# Altium footprint library WR-RPSMA.PcbLib: 10 footprints
Each footprint in its own frame and in the unit in brackets; x right, y up, seen from the top. Pads: shape width x height; smd on the part's side, far side on the other; paste and mask are expansions set on the pad; w line width, h text height; cw(c..) or ccw(c..) is an arc to the next point about the centre after c.
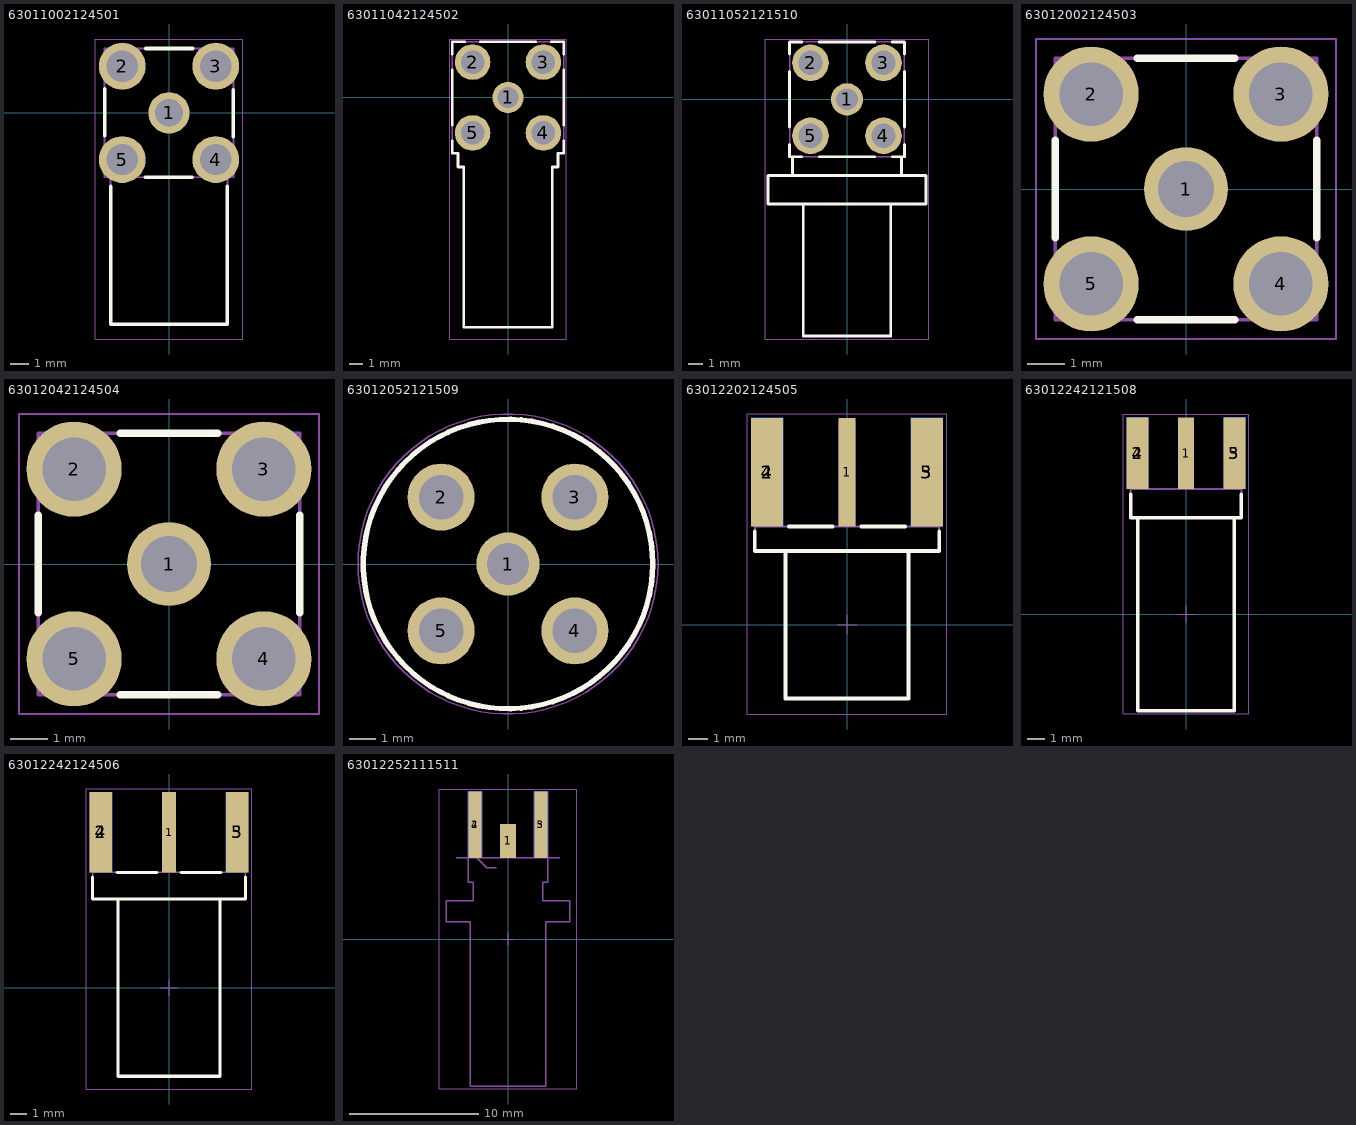
[diagram p0: the footprints below, top view; thin cyan lines are the x and y axes]

## 63011002124501 [mm] "Reverse Polarity SMA PCB THT  Jack Right Angle"
height 7
pads (5):
  round 2.25 hole 1.5: 1(0,0)
  round 2.55 hole 1.7: 2(-2.54,2.54) 3(2.54,2.54) 4(2.54,-2.54) 5(-2.54,-2.54)
Top Overlay:
  lines w0.2: -3.5,-1.25 -3.5,1.3 ; -3.175,-4 -3.175,-11.5 3.175,-11.5 3.175,-4 ; -1.3,-3.5 1.25,-3.5 ; -1.25,3.5 1.3,3.5 ; 3.5,-1.3 3.5,1.25
Top Designator:
  text ".Designator" at -7.498,-0.5 h1.5
Top Component Outline:
  lines w0.1: -3.175,-3.5 -3.175,-11.5 3.175,-11.5 3.175,-3.5 ; -3.5,-3.5 -3.5,3.5 3.5,3.5 3.5,-3.5 -3.5,-3.5
Top 3D Body:
  lines w0.1: -3.175,-3.5 -3.175,-11.5 3.175,-11.5 3.175,-3.5 ; -3.5,-3.5 3.5,-3.5 3.5,3.5 -3.5,3.5 -3.5,-3.5
Top Courtyard:
  lines w0.05: -0.5,0 0.5,0 ; 0,-0.5 0,0.5 ; -4.015,-12.3 4.015,-12.3 4.015,4.015 -4.015,4.015 -4.015,-12.3
3D body "63011002124501.stp": height 9.68, standoff -3.92, extent -3.5,-12.202 3.5,3.5

## 63011042124502 [mm] "Reverse Polarity SMA PCB THT Jack  Right Angle Rear Mount Bulkhead"
height 10.44
pads (5):
  round 2.25 hole 1.5: 1(0,0)
  round 2.55 hole 1.7: 2(-2.54,2.54) 3(2.54,2.54) 4(2.54,-2.54) 5(-2.54,-2.54)
Top Overlay:
  lines w0.2: -4,-3.1 -4,-4 -3.6,-4 -3.6,-5 -3.175,-5 -3.175,-16.5 3.175,-16.5 3.175,-5 3.6,-5 3.6,-4 4,-4 4,-3.1 ; -4,-1.98 -4,1.98 ; -4,3.1 -4,4 -3.1,4 ; -1.98,4 1.98,4 ; 3.1,4 4,4 4,3.1 ; 4,-1.98 4,1.98
Top Designator:
  text ".Designator" at -7.498,-0.5 h1.5
Top Component Outline:
  lines w0.1: -4,-4 -4,4 4,4 4,-4 3.6,-4 3.6,-5 3.175,-5 3.175,-16.5 -3.175,-16.5 -3.175,-5 -3.6,-5 -3.6,-4 -4,-4
Top 3D Body:
  lines w0.1: -4,-4 -3.6,-4 -3.6,-5 -3.175,-5 -3.175,-16.5 3.175,-16.5 3.175,-5 3.6,-5 3.6,-4 4,-4 4,4 -4,4 -4,-4
Top Courtyard:
  lines w0.05: -0.5,0 0.5,0 ; 0,-0.5 0,0.5 ; -4.2,-17.34 -4.2,4.2 4.2,4.2 4.2,-17.34 -4.2,-17.34
3D body "63011042124502.stp": height 10.47, standoff -3.91, extent -4,-17.24 4,4

## 63011052121510 [mm] "RP-SMA PCB THT Right Angle Jack IP67"
height 10.44
pads (5):
  round 2.25 hole 1.5: 1(0,0)
  round 2.55 hole 1.7: 2(-2.54,2.54) 3(2.54,2.54) 4(2.54,-2.54) 5(-2.54,-2.54)
Top Overlay:
  lines w0.2: -4,-3.15 -4,-4 -3.15,-4 ; -4,-1.93 -4,1.93 ; -4,3.15 -4,4 -3.15,4 ; -3.8,-5.3 -3.8,-4 ; -3.05,-7.3 -3.05,-16.5 3.05,-16.5 3.05,-7.3 ; -1.93,-4 1.93,-4 ; -1.93,4 1.93,4 ; 3.15,-4 4,-4 4,-3.15 ; 3.15,4 4,4 4,3.15 ; 3.8,-5.3 3.8,-4 ; 4,-1.93 4,1.93 ; -5.5,-7.3 -5.5,-5.3 5.5,-5.3 5.5,-7.3 -5.5,-7.3
Top Designator:
  text ".Designator" at -7.498,-0.5 h1.5
Top Component Outline:
  lines w0.1: -3.8,-5.3 -3.8,-4 ; -3.05,-7.3 -3.05,-16.5 3.05,-16.5 3.05,-7.3 ; 3.8,-5.3 3.8,-4 ; -5.5,-7.3 -5.5,-5.3 5.5,-5.3 5.5,-7.3 -5.5,-7.3 ; -4,-4 -4,4 4,4 4,-4 -4,-4
Top 3D Body:
  lines w0.1: -3.8,-5.3 -3.8,-4 ; -3.05,-7.3 -3.05,-16.5 3.05,-16.5 3.05,-7.3 ; 3.8,-5.3 3.8,-4 ; -5.5,-7.3 5.5,-7.3 5.5,-5.3 -5.5,-5.3 -5.5,-7.3 ; -4,-4 4,-4 4,4 -4,4 -4,-4
Top Courtyard:
  lines w0.05: -0.5,0 0.5,0 ; 0,-0.5 0,0.5 ; -5.7,-16.7 -5.7,4.2 5.7,4.2 5.7,-16.7 -5.7,-16.7
3D body "63011052121510.stp": height 11.88, standoff -3.91, extent -5.5,-16.5 5.5,4.08

## 63012002124503 [mm] "Reverse Polarity SMA PCB THT  Jack Straight"
height 9.56
pads (5):
  round 2.25 hole 1.5: 1(0,0)
  round 2.55 hole 1.7: 2(-2.54,2.54) 3(2.54,2.54) 4(2.54,-2.54) 5(-2.54,-2.54)
Top Overlay:
  lines w0.2: -3.5,-1.3 -3.5,1.3 ; -1.3,-3.5 1.3,-3.5 ; -1.3,3.5 1.3,3.5 ; 3.5,-1.3 3.5,1.3
Top Designator:
  text ".Designator" at -7.498,-0.5 h1.5
Top Component Outline:
  lines w0.1: -3.5,-3.5 -3.5,3.5 3.5,3.5 3.5,-3.5 -3.5,-3.5
Top 3D Body:
  lines w0.1: -3.5,-3.5 3.5,-3.5 3.5,3.5 -3.5,3.5 -3.5,-3.5
Top Courtyard:
  lines w0.05: -0.5,0 0.5,0 ; 0,-0.5 0,0.5 ; -4.015,-4.015 -4.015,4.015 4.015,4.015 4.015,-4.015 -4.015,-4.015
3D body "63012002124503.stp": height 10.36, standoff -3.94, extent -3.5,-3.5 3.5,3.5

## 63012042124504 [mm] "Reverse Polarity SMA PCB THT Jack  Straight Rear Mount Bulkhead"
height 13.76
pads (5):
  round 2.25 hole 1.5: 1(0,0)
  round 2.55 hole 1.7: 2(-2.54,2.54) 3(2.54,2.54) 4(2.54,-2.54) 5(-2.54,-2.54)
Top Overlay:
  lines w0.2: -3.5,-1.3 -3.5,1.3 ; -1.3,-3.5 1.3,-3.5 ; -1.3,3.5 1.3,3.5 ; 3.5,-1.3 3.5,1.3
Top Designator:
  text ".Designator" at -7.498,-0.5 h1.5
Top Component Outline:
  lines w0.1: -3.5,-3.5 -3.5,3.5 3.5,3.5 3.5,-3.5 -3.5,-3.5
Top 3D Body:
  lines w0.1: -3.5,-3.5 3.5,-3.5 3.5,3.5 -3.5,3.5 -3.5,-3.5
Top Courtyard:
  lines w0.05: -0.35,0 0.35,0 ; 0,-0.35 0,0.35 ; -4.015,-4.015 4.015,-4.015 4.015,4.015 -4.015,4.015 -4.015,-4.015
3D body "63012042124504.stp": height 14.86, standoff -3.94, extent -3.5,-3.5 3.5,3.5

## 63012052121509 [mm] "RP-SMA PCB THT Straight Jack IP67"
height 17.4
pads (5):
  round 2.4 hole 1.6: 1(0,0)
  round 2.55 hole 1.7: 2(-2.54,2.54) 3(2.54,2.54) 4(2.54,-2.54) 5(-2.54,-2.54)
Top Overlay:
  circle w0.2: c0,0 r5.5
Top Designator:
  text ".Designator" at -7.498,-0.5 h1.5
Top Component Outline:
  circle w0.1: c0,0 r5.5
Top 3D Body:
  circle w0.1: c0,0 r5.5
Top Courtyard:
  circle w0.05: c0,0 r5.7
  lines w0.05: -0.5,0 0.5,0 ; 0,-0.5 0,0.5
3D body "63012052121509.stp": height 17.79, standoff -3.9, extent -7.778,-7.778 7.778,7.778

## 63012202124505 [mm] "Reverse Polarity SMA PCB End  Launch Jack Round Post for 1.6mm  PCB"
height 7.92
pads (5):
  rect 0.9x5.6 smd: 1(0,7.88)
  rect 1.65x5.6 smd: 2(-4.125,7.88) 3(4.125,7.88)
  rect 1.65x5.6 smd far side: 4(-4.125,7.88) 5(4.125,7.88)
Top Overlay:
  lines w0.2: -4.76,4.81 -4.76,3.81 4.76,3.81 4.76,4.81 ; -3.175,3.81 -3.175,-3.81 3.175,-3.81 3.175,3.81 ; -3,5.08 -0.75,5.08 ; 0.75,5.08 3,5.08
Notes:
  lines w0.1: -4.76,5.08 4.76,5.08
  text "PCB End" at -1.4,4.28 h0.5
  text "PCB Thickness 1.6mm" at -3.4,-4.62 h0.5
Top Designator:
  text ".Designator" at -7.498,-0.5 h1.5
Top Component Outline:
  lines w0.1: -4.76,5.08 4.76,5.08 ; -3.49,5.08 -3.49,10.46 -4.76,10.46 -4.76,3.81 4.76,3.81 4.76,10.46 3.49,10.46 3.49,5.08 ; -3.175,3.81 -3.175,-3.81 3.175,-3.81 3.175,3.81 ; -0.38,5.08 -0.38,10.46 0.38,10.46 0.38,5.08
Top 3D Body:
  lines w0.1: -4.76,5.08 4.76,5.08 ; -3.49,5.08 -3.49,10.46 -4.76,10.46 -4.76,3.81 4.76,3.81 4.76,10.46 3.49,10.46 3.49,5.08 ; -3.175,3.81 -3.175,-3.81 3.175,-3.81 3.175,3.81 ; -0.38,5.08 -0.38,10.46 0.38,10.46 0.38,5.08
Top Courtyard:
  lines w0.05: -0.5,0 0.5,0 ; 0,-0.5 0,0.5 ; -5.15,-4.61 -5.15,10.88 5.15,10.88 5.15,-4.61 -5.15,-4.61
3D body "63012202124505.stp": height 4.34, standoff -3.58, extent -4.76,-4.51 4.76,10.46

## 63012242121508 [mm] "RPSMA PCB End Launch Jack Bulkhead for 1.6mm"
height 6.35
pads (5):
  rect 0.9x4.1 smd: 1(0,9.225)
  rect 1.25x4.1 smd: 2(-2.775,9.225) 3(2.775,9.225)
  rect 1.25x4.1 smd far side: 4(-2.775,9.225) 5(2.775,9.225)
Top Overlay:
  lines w0.2: -3.175,6.875 -3.175,5.525 3.175,5.525 3.175,6.875 ; -2.77,5.525 -2.77,-5.525 2.77,-5.525 2.77,5.525
Notes:
  lines w0.1: -3.175,7.175 3.175,7.175
  text "PCB Thickness 1.6mm" at -3.8,-6.425 h0.5
  text "PCB End" at -1.5,6.375 h0.5
Top Designator:
  text ".Designator" at -7.498,-0.5 h1.5
Top Component Outline:
  lines w0.1: -3.175,7.175 3.175,7.175 ; -2.77,5.525 -2.77,-5.525 2.77,-5.525 2.77,5.525 ; -2.365,7.175 -2.365,10.985 -3.175,10.985 -3.175,5.525 3.175,5.525 3.175,10.985 2.365,10.985 2.365,7.175 ; -0.38,7.175 -0.38,10.985 0.38,10.985 0.38,7.175
Top 3D Body:
  lines w0.1: -3.175,7.175 3.175,7.175 ; -2.77,5.525 -2.77,-5.525 2.77,-5.525 2.77,5.525 ; -2.365,7.175 -2.365,10.985 -3.175,10.985 -3.175,5.525 3.175,5.525 3.175,10.985 2.365,10.985 2.365,7.175 ; -0.38,7.175 -0.38,10.985 0.38,10.985 0.38,7.175
Top Courtyard:
  lines w0.05: -0.5,0 0.5,0 ; 0,-0.5 0,0.5 ; -3.6,-5.725 -3.6,11.475 3.6,11.475 3.6,-5.725 -3.6,-5.725
3D body "63012242121508.stp": height 5.5, standoff -4.7, extent -5.1,-5.765 5.1,10.985

## 63012242124506 [mm] "Reverse Polarity SMA PCB End  Launch Jack Round Post Rear Mount  Bulkhead for 1.6mm PCB"
height 7.92
pads (5):
  rect 0.9x5 smd: 1(0,9.675)
  rect 1.4x5 smd: 2(-4.25,9.675) 3(4.25,9.675)
  rect 1.4x5 smd far side: 4(-4.25,9.675) 5(4.25,9.675)
Top Overlay:
  lines w0.2: -4.76,6.875 -4.76,5.525 4.76,5.525 4.76,6.875 ; -3.25,7.175 -0.75,7.175 ; -3.175,5.525 -3.175,-5.525 3.175,-5.525 3.175,5.525 ; 0.75,7.175 3.25,7.175
Notes:
  lines w0.1: -4.76,7.175 4.76,7.175
  text "PCB Thickness 1.6mm" at -3.7,-6.325 h0.5
  text "PCB End" at -1.4,6.275 h0.5
Top Designator:
  text ".Designator" at -7.498,-0.5 h1.5
Top Component Outline:
  lines w0.1: -4.76,7.175 4.76,7.175 ; -3.74,7.175 -3.74,11.925 -4.76,11.925 -4.76,5.525 4.76,5.525 4.76,11.925 3.74,11.925 3.74,7.175 ; -3.175,5.525 -3.175,-5.525 3.175,-5.525 3.175,5.525 ; -0.38,7.175 -0.38,11.925 0.38,11.925 0.38,7.175
Top 3D Body:
  lines w0.1: -4.76,7.175 4.76,7.175 ; -3.74,7.175 -3.74,11.925 -4.76,11.925 -4.76,5.525 4.76,5.525 4.76,11.925 3.74,11.925 3.74,7.175 ; -3.175,5.525 -3.175,-5.525 3.175,-5.525 3.175,5.525 ; -0.38,7.175 -0.38,11.925 0.38,11.925 0.38,7.175
Top Courtyard:
  lines w0.05: -0.5,0 0.5,0 ; 0,-0.5 0,0.5 ; -5.15,-6.325 -5.15,12.375 5.15,12.375 5.15,-6.325 -5.15,-6.325
3D body "63012242124506.stp": height 4.36, standoff -3.56, extent -4.76,-6.225 4.76,11.925

## 63012252111511 [mm] "RPSMA End launch PCB Bulkhead Jack"
height 9.5
pads (5):
  rect 1.2x2.6 smd: 1(0,7.57)
  rect 1.02x5.1 smd: 2(-2.54,8.82) 3(2.54,8.82)
  rect 1.02x5.1 smd far side: 4(-2.54,8.82) 5(2.54,8.82)
Notes:
  lines w0.1: -4,6.27 4,6.27 ; -2.4,6.27 -1.63,5.5 -0.9,5.5
  text "PCB End" at -0.6,4.995 h0.8
  text "PCB Thickness 1.6mm" at -5.8,-12.605 h0.8
Top Designator:
  text ".Designator" at -7.498,-0.5 h1.5
Top Component Outline:
  lines w0.1: -4.75,1.32 -2.925,1.32 -2.925,-11.38 2.925,-11.38 2.925,1.32 4.75,1.32 4.75,2.97 2.7,2.97 2.7,4.37 3.05,4.37 3.05,11.38 2.03,11.38 2.03,6.27 0.255,6.27 0.255,8.82 -0.255,8.82 -0.255,6.27 -2.03,6.27 -2.03,11.38 -3.05,11.38 -3.05,4.37 -2.7,4.37 -2.7,2.97 -4.75,2.97 -4.75,1.32
Top 3D Body:
  lines w0.1: -4.75,1.32 -4.75,2.97 -2.7,2.97 -2.7,4.37 -3.05,4.37 -3.05,11.38 -2.03,11.38 -2.03,6.27 -0.255,6.27 -0.255,8.82 0.255,8.82 0.255,6.27 2.03,6.27 2.03,11.38 3.05,11.38 3.05,4.37 2.7,4.37 2.7,2.97 4.75,2.97 4.75,1.32 2.925,1.32 2.925,-11.38 -2.925,-11.38 -2.925,1.32 -4.75,1.32
Top Courtyard:
  lines w0.05: -0.5,0 0.5,0 ; 0,-0.5 0,0.5 ; -5.3,-11.58 5.3,-11.58 5.3,11.58 -5.3,11.58 -5.3,-11.58
3D body "63012252111511.stp": height 5.36, standoff -4.84, extent -5.1,-11.67 5.1,11.38